# Altium schematic symbol library LED SchLib.SchLib: 5 symbols
Pins are listed as number, name and electrical type; pins without a type are passive.

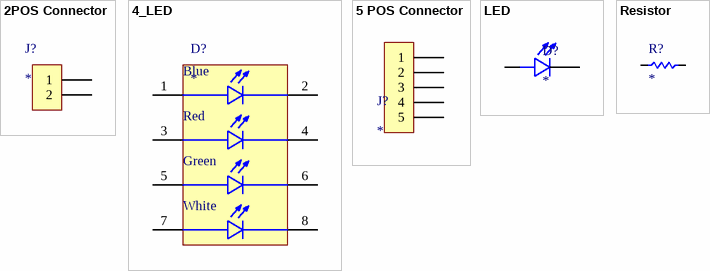
[diagram p0: symbols 2POS Connector to Resistor]

## 2POS Connector
designator J?
footprint 2 POS PADs
pins: 1, 2

## 4_LED
designator D?
footprint LUXEON_MULTICOLOR
pins: 1, 2, 3, 4, 5, 6, 7, 8
text: Blue; Red; Green; White

## 5 POS Connector
designator J?
footprint 5 POS PADs
pins: 1, 2, 3, 4, 5

## LED
designator D?
footprint LUXEON_2835N
pins: A, C

## Resistor
designator R?
footprint RES1206
pins: 1, 2